# EAGLE library part PTN78060W (library microLib)
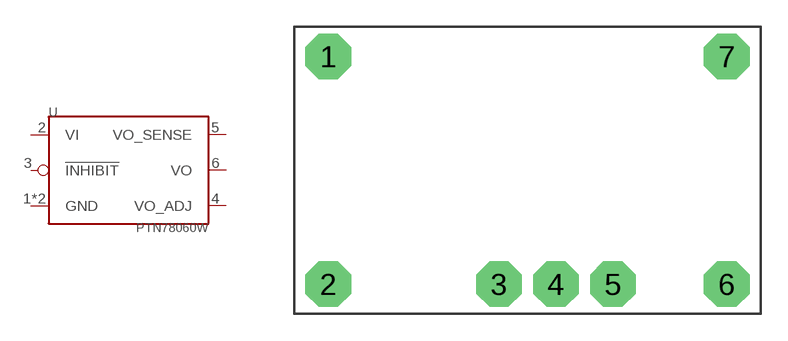
[diagram p2: symbol with the pads of PTN78060; footprint PTN78060]

Designator prefix -

## PTN78060W  [PTN78060]
1  GND  pwr
2  VI  pwr
3  !INHIBIT!  in
4  VO_ADJ  pwr
5  VO_SENSE  in
6  VO  pwr
7  GND  pwr

## Footprint PTN78060 (pad centres in mm)
drill 1.4 pad 2.54 octagon: 1 -11.113,6.35; 2 -11.113,-6.35; 3 -1.587,-6.35; 4 1.587,-6.35; 5 4.763,-6.35; 6 11.113,-6.35; 7 11.113,6.35